# Altium schematic symbol library SCH - AUDIO - MICROPHONE ELECTRET.SCHLIB: 1 symbol
Pins are listed as number, name and electrical type; pins without a type are passive.

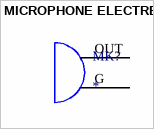
[diagram p0: symbol MICROPHONE ELECTRET]

## MICROPHONE ELECTRET
designator MK?
pins: G GND, OUT